# Altium schematic symbol library drfc_schlib.SchLib: 24 symbols
Pins are listed as number, name and electrical type; pins without a type are passive.

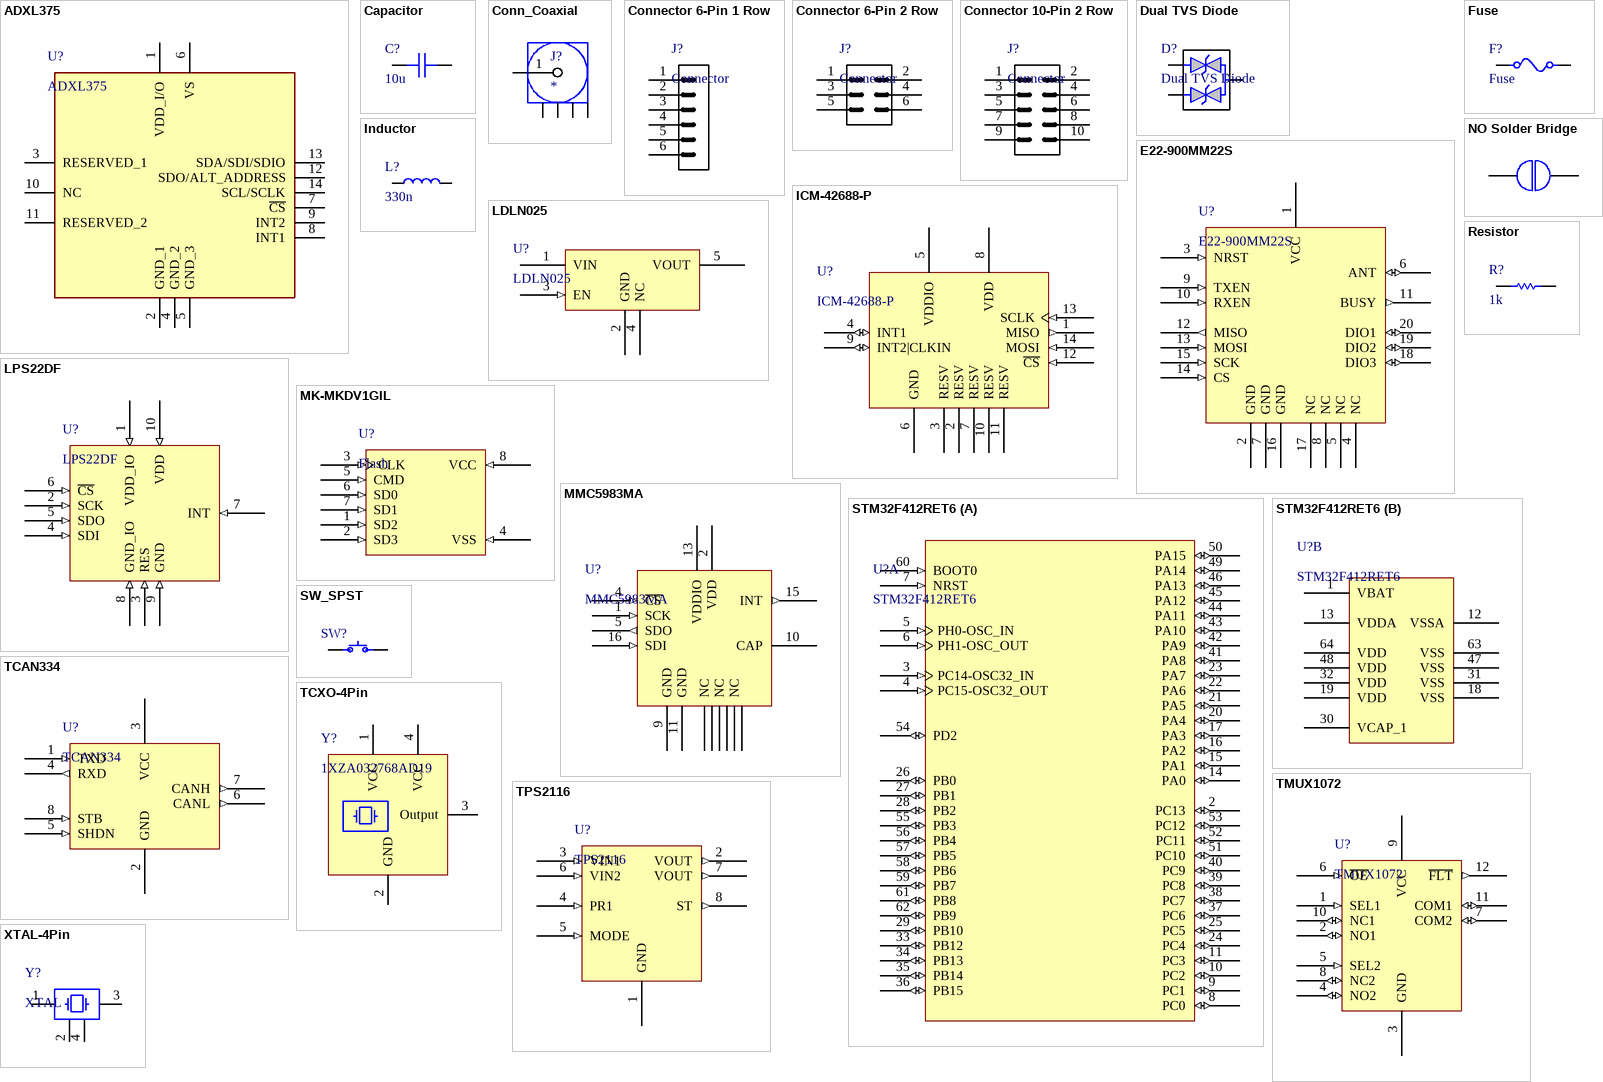
[diagram p0: symbols ADXL375 to XTAL-4Pin]

## ADXL375
designator U?
3-Axis, ±200 g / Digital MEMS Accelerometer
pins: 1 VDD_I/O, 2 GND_1, 3 RESERVED_1, 4 GND_2, 5 GND_3, 6 VS, 7 ~{CS}, 8 INT1, 9 INT2, 10 NC, 11 RESERVED_2, 12 SDO/ALT_ADDRESS, 13 SDA/SDI/SDIO, 14 SCL/SCLK

## Capacitor
designator C?, comment 10u
Capacitor
pins: 1, 2

## Conn_Coaxial
designator J?
Coaxial Connector
pins: 1, 2 (power) "GND", 3 (power) "GND", 4 (power) "GND", 5 (power) "GND"

## Connector 6-Pin 1 Row
designator J?, comment Connector
6 Pin 1 Row Connector
pins: 1, 2, 3, 4, 5, 6

## Connector 6-Pin 2 Row
designator J?, comment Connector
Connector 6-Pin 2 Row
pins: 1, 2, 3, 4, 5 3, 6 3

## Connector 10-Pin 2 Row
designator J?, comment Connector
Connector 10-Pin 2 Row
pins: 1, 2, 3, 4, 5 3, 6 3, 7 4, 8 4, 9 5, 10 5

## Dual TVS Diode
designator D?
pins: 1, 2, 3

## E22-900MM22S
designator U?
SX1262 868/915MHz ultra small size Lora SMD module
pins: 1 VCC (power), 2 GND (power), 3 NRST (in), 4 NC (oc), 5 NC (oc), 6 ANT (io), 7 GND (power), 8 NC (oc), 9 TXEN (in), 10 RXEN (in), 11 BUSY (out), 12 MISO (out), 13 MOSI (in), 14 CS (in), 15 SCK (in), 16 GND (power), 17 NC (oc), 18 DIO3 (io), 19 DIO2 (io), 20 DIO1 (io)

## Fuse
designator F?
pins: 1, 2

## ICM-42688-P
designator U?
High Precision 6-Axis MEMS Gyro and Accelerometer
pins: 1 MISO (out), 2 RESV (power), 3 RESV (power), 4 INT1 (io), 5 VDDIO (power), 6 GND (power), 7 RESV (power), 8 VDD (power), 9 INT2|CLKIN (io), 10 RESV (power), 11 RESV (power), 12 ~{CS} (in), 13 SCLK (in), 14 MOSI (in)

## Inductor
designator L?, comment 330n
Inductor
pins: 1, 2

## LDLN025
designator U?
250 mA ultra low noise LDO
pins: 1 VIN (power), 2 GND (power), 3 EN (in), 4 NC (power), 5 VOUT (power)

## LPS22DF
designator U?
Low-power and high-precision MEMS nano pressure sensor: 260-1260 hPa absolute digital output barometer
pins: 1 VDD_IO (in), 2 SCK (in), 3 RES (in), 4 SDI (in), 5 SDO (in), 6 ~{CS} (in), 7 INT (in), 8 GND_IO (in), 9 GND (in), 10 VDD (in)

## MK-MKDV1GIL
designator U?, comment Flash
1Gbit LGA-8(6x8) SD NAND FLASH ROHS
pins: 1 SD2 (in), 2 SD3 (in), 3 CLK (in), 4 VSS (in), 5 CMD (in), 6 SD0 (in), 7 SD1 (in), 8 VCC (in)

## MMC5983MA
designator U?
±8 Gauss, High Performance / 3-axis Magnetic Sensor
pins: 1 SCK (in), 2 VDD (power), 3 NC, 4 ~{CS} (in), 5 SDO (out), 6 NC, 7 NC, 8 NC, 9 GND (power), 10 CAP (power), 11 GND (power), 12 NC, 13 VDDIO (power), 14 NC, 15 INT (out), 16 SDI (in)

## NO Solder Bridge
designator SB?  (value not drawn)
Normally Open Solder Bridge
pins: 1 (oc), 2 (oc)

## Resistor
designator R?, comment 1k
Resistor
pins: 1, 2

## STM32F412RET6
designator U?
512KB 1.7V~3.6V ARM Cortex-M4 256KB 100MHz FLASH 50 LQFP-64(10x10) Microcontroller Units (MCUs/MPUs/SOCs) ROHS
part A pins: 2 PC13 (io), 3 PC14-OSC32_IN (in), 4 PC15-OSC32_OUT (in), 5 PH0-OSC_IN (in), 6 PH1-OSC_OUT (in), 7 NRST (in), 8 PC0 (io), 9 PC1 (io), 10 PC2 (io), 11 PC3 (io), 14 PA0 (io), 15 PA1 (io), 16 PA2 (io), 17 PA3 (io), 20 PA4 (io), 21 PA5 (io), 22 PA6 (io), 23 PA7 (io), 24 PC4 (io), 25 PC5 (io), 26 PB0 (io), 27 PB1 (io), 28 PB2 (io), 29 PB10 (io), 33 PB12 (io), 34 PB13 (io), 35 PB14 (io), 36 PB15 (io), 37 PC6 (io), 38 PC7 (io), 39 PC8 (io), 40 PC9 (io), 41 PA8 (io), 42 PA9 (io), 43 PA10 (io), 44 PA11 (io), 45 PA12 (io), 46 PA13 (io), 49 PA14 (io), 50 PA15 (io), 51 PC10 (io), 52 PC11 (io), 53 PC12 (io), 54 PD2 (io), 55 PB3 (io), 56 PB4 (io), 57 PB5 (io), 58 PB6 (io), 59 PB7 (io), 60 BOOT0 (in), 61 PB8 (io), 62 PB9 (io)
part B pins: 1 VBAT (power), 12 VSSA (power), 13 VDDA (power), 18 VSS (power), 19 VDD (power), 30 VCAP_1 (power), 31 VSS (power), 32 VDD (power), 47 VSS (power), 48 VDD (power), 63 VSS (power), 64 VDD (power)

## SW_SPST
designator SW?, comment SPST Switch  (value not drawn)
pins: 1, 2

## TCAN334
designator U?
Can tranciever with shutdown and standby with wake
pins: 1 TXD (in), 2 GND (power), 3 VCC (power), 4 RXD (out), 5 SHDN (in), 6 CANL (out), 7 CANH (out), 8 STB (in)

## TCXO-4Pin
designator Y?, comment 1XZA032768AD19
3.3V ±5ppm 32.768kHz SMD3225-4P Temperature Compensated Crystal Oscillators (TCXOs) ROHS
pins: 1 VCC (power), 2 GND (power), 3 Output, 4 VCC (power)

## TMUX1072
designator U?
2-Channel 2:1 Analog Multiplexer with Overvoltage Detection and Protection
pins: 1 SEL1 (in), 2 NO1 (io), 3 GND (power), 4 NO2 (io), 5 SEL2 (in), 6 ~{OE} (in), 7 COM2 (io), 8 NC2 (io), 9 VCC (power), 10 NC1 (io), 11 COM1 (io), 12 ~{FLT} (out)

## TPS2116
designator U?
1.6 V to 5.5 V, 2.5-A Low IQ Power Mux with Manual and Priority Switchover
pins: 1 GND (power), 2 VOUT (out), 3 VIN1 (in), 4 PR1 (in), 5 MODE (in), 6 VIN2 (in), 7 VOUT (out), 8 ST (out)

## XTAL-4Pin
designator Y?, comment XTAL
Crystal Oscillator
footprint XTAL_3.2x2.5mm (QUARTZ CRYSTAL SMD 3.2X2.5MM CERAMIC SEAM SEAL PACKAGE)
pins: 1 X1 (power), 2 GND (power), 3 X2, 4 GND (power)